# Altium footprint library CarlLibrary.PcbLib: 15 footprints
Each footprint in its own frame and in the unit in brackets; x right, y up, seen from the top. Pads: shape width x height; smd on the part's side, far side on the other; paste and mask are expansions set on the pad; w line width, h text height; cw(c..) or ccw(c..) is an arc to the next point about the centre after c.
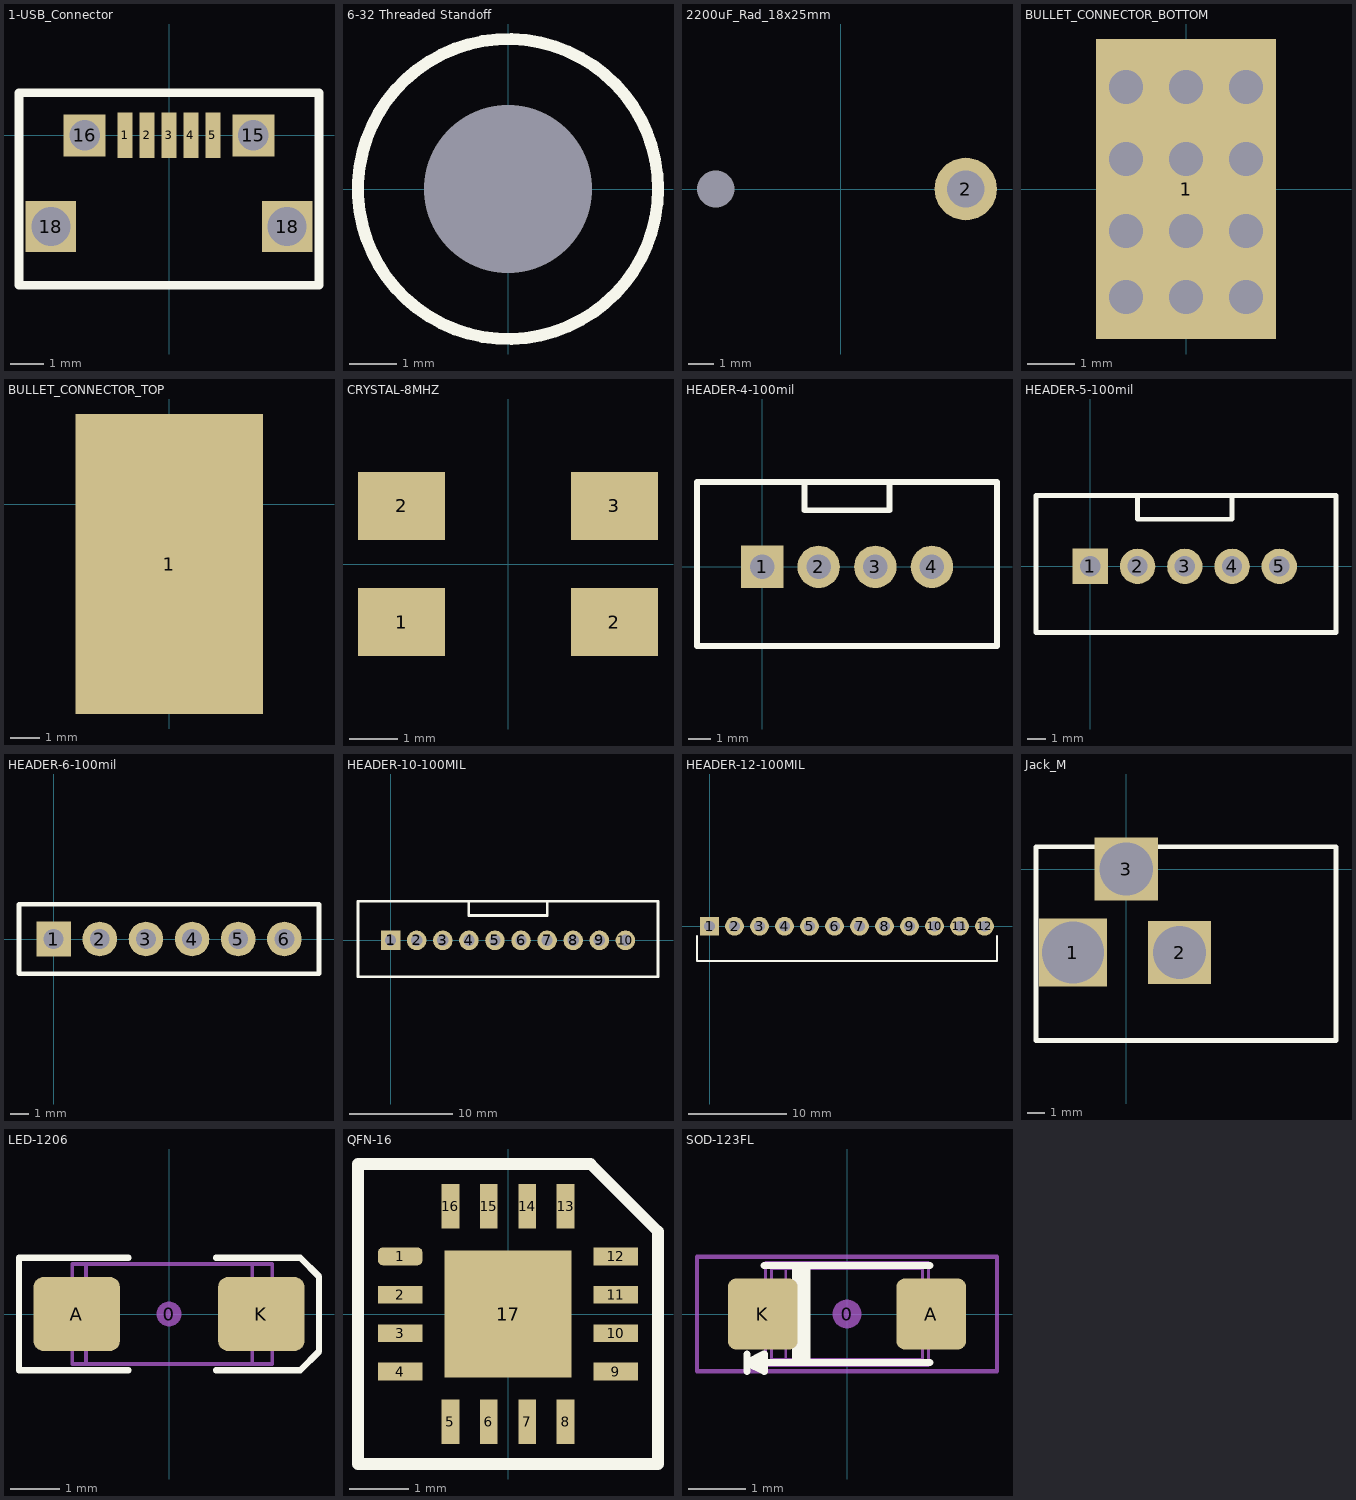
[diagram p0: the footprints below, top view; thin cyan lines are the x and y axes]

## 1-USB_Connector [mm] "USB_Connector_5P_MICRO_USB_FCI_TypeB"
pads (9):
  rect 0.45x1.35 smd: 1(-1.3,0) 2(-0.65,0) 3(0,0) 4(0.65,0) 5(1.3,0)
  rect 1.25x1.25 hole 0.9: 15(2.5,0) 16(-2.5,0)
  rect 1.5x1.5 hole 1.15: 18(-3.5,-2.7) 18(3.5,-2.7)
Top Overlay:
  lines w0.254: -4.445,-4.445 4.445,-4.445 4.445,1.27 -4.445,1.27 -4.445,-4.445
3D body "UsbMicro-10118194.step": height 2.73, standoff -0.55, extent -4.025,-5.334 4.025,0.246

## 6-32 Threaded Standoff [mil] "Keystone Threaded Standoff 534-2210"
pads (1):
  round 0 hole 140 unplated: 0(0,0)
Top Overlay:
  circle w10: c0,0 r125
Bottom Overlay:
  circle w10: c0,0 r125
3D body "Keystone-Standoff-534-2210.STEP": height 500, standoff 0, extent -124.99,-144.33 125,144.34

## 2200uF_Rad_18x25mm [mm] "10mm Pitch Radial Capacitor"
height 45
pads (2):
  round 0 / inner rect 0x0 / far side rect 2.5x2.5 hole 1.5 paste+0 mask+0: 1(-5,0)
  round 2.5 hole 1.5 paste+0.5 mask+0: 2(5,0)
3D body "2200uF_35V.STEP": height 35, standoff 10, extent -8,-8 8,8

## BULLET_CONNECTOR_BOTTOM [mm]
pads (1):
  rect 3.81x6.35 smd: 1(0,0)
via -1.27,-0.889 diameter 1.27 hole 0.711
via 0,-0.889 diameter 1.27 hole 0.711
via 1.27,-0.889 diameter 1.27 hole 0.711
via -1.27,0.635 diameter 1.27 hole 0.711
via 0,0.635 diameter 1.27 hole 0.711
via 1.27,0.635 diameter 1.27 hole 0.711
via 1.27,2.159 diameter 1.27 hole 0.711
via 0,2.159 diameter 1.27 hole 0.711
via -1.27,2.159 diameter 1.27 hole 0.711
via 1.27,-2.286 diameter 1.27 hole 0.711
via -1.27,-2.286 diameter 1.27 hole 0.711
via 0,-2.286 diameter 1.27 hole 0.711

## BULLET_CONNECTOR_TOP [mil] "TOP_SIDE_BULLET"
pads (1):
  rect 250x400 smd: 1(0,-80)
3D body "BulletConnector.STEP": height 246.33, standoff -49.48, extent -142.52,-445.86 142.53,125.01

## CRYSTAL-8MHZ [mm] "ABRACON ABMM2-8.000MHZ-E2-T"
pads (4):
  rect 1.8x1.4 smd: 1(-2.2,-1.2) 2(-2.2,1.2) 2(2.2,-1.2) 3(2.2,1.2)
3D body "ABMM2.STEP": height 1.21, standoff 0, extent -3,-1.778 3,1.822

## HEADER-4-100mil [mil] "100 mil spacing"
pads (4):
  rect 75x75 hole 43: 1(0,0)
  round 75 hole 43: 2(100,0) 3(200,0) 4(300,0)
Top Overlay:
  lines w10: 75,150 75,100 225,100 225,150 ; -115,-140 415,-140 415,150 -115,150 -115,-140
3D body "901361104.STEP": height 431.1, standoff -112.2, extent -115.94,-141.92 415.95,141.94

## HEADER-5-100mil [mil] "100 mil spacing"
pads (5):
  rect 75x75 hole 43: 1(0,0)
  round 75 hole 43: 2(100,0) 3(200,0) 4(300,0) 5(400,0)
Top Overlay:
  lines w10: 100,150 100,100 300,100 300,150 ; -115,-140 520,-140 520,150 -115,150 -115,-140
3D body "901361105.stp": height 431.1, standoff -112.2, extent -115.94,-136.92 515.95,146.94

## HEADER-6-100mil [mil] "100 mil spacing"
pads (6):
  rect 75x75 hole 43: 1(0,0)
  round 75 hole 43: 2(100,0) 3(200,0) 4(300,0) 5(400,0) 6(500,0)
Top Overlay:
  lines w10: -75,-75 575,-75 575,75 -75,75 -75,-75
3D body "4-103327-6.stp": height 338.58, standoff -118.11, extent -50,-50 550,50

## HEADER-10-100MIL [mil] "100 Mil Pitch"
pads (10):
  rect 75x75 hole 43: 1(0,0)
  round 75 hole 43: 2(100,0) 3(200,0) 4(300,0) 5(400,0) 6(500,0) 7(600,0) 8(700,0) 9(800,0) 10(900,0)
Top Overlay:
  lines w10: 300,150 300,95 600,95 600,150 ; -125,-140 -125,150 1025,150 1025,-140 -125,-140
3D body "901361110.STEP": height 421.26, standoff -122.05, extent -115.95,-140 1015.95,143.86

## HEADER-12-100MIL [mil] "100 Mil Pitch"
pads (12):
  rect 75x75 hole 43: 1(0,0)
  round 75 hole 43: 2(100,0) 3(200,0) 4(300,0) 5(400,0) 6(500,0) 7(600,0) 8(700,0) 9(800,0) 10(900,0) 11(1000,0) 12(1100,0)
Top Overlay:
  lines w8: -50,-40 -50,-140 1150,-140 1150,-40

## Jack_M [mm] "Jack_2.5A_16V_Through_Hole"
pads (3):
  rect 3.81x3.81 hole 3.5: 1(-3,-4.7)
  rect 3.556x3.556 hole 3: 2(3,-4.7) 3(0,0)
Top Overlay:
  lines w0.254: -5.08,-9.652 -5.08,1.27 11.811,1.27 11.811,-9.652 -5.08,-9.652
3D body "pj-002b.STEP": height 11, standoff -3.5, extent -3.556,-9.018 10.844,0.382

## LED-1206 [mm]
height 0.8
pads (3):
  round 0.508 on Mech14: 0(0,0)
  rrect25% 1.75x1.5 smd: A(-1.875,0) K(1.875,0)
Top Overlay:
  lines w0.127: -0.826,-1.143 -3.048,-1.143 -3.048,1.143 -0.826,1.143 ; 0.953,-1.143 2.667,-1.143 3.048,-0.762 3.048,0.762 2.667,1.143 0.953,1.143
Mechanical 13:
  lines w0.076: -1.689,-1.016 1.689,-1.016 1.689,1.016 -1.689,1.016 -1.689,-1.016
Mechanical 14:
  lines w0.076: -1.968,-1.016 2.095,-1.016 2.095,1.016 -1.968,1.016 -1.968,-1.016
3D body "SML-LXLC1206.stp": height 1.11, standoff 0, extent -1.603,-0.8 1.603,0.8

## QFN-16 [mm]
pads (17):
  rrect50% 0.75x0.3 smd: 1(-1.825,0.975)
  rect 0.75x0.3 smd: 2(-1.825,0.325) 3(-1.825,-0.325) 4(-1.825,-0.975) 9(1.825,-0.975) 10(1.825,-0.325) 11(1.825,0.325) 12(1.825,0.975)
  rect 0.3x0.75 smd: 5(-0.975,-1.825) 6(-0.325,-1.825) 7(0.325,-1.825) 8(0.975,-1.825) 13(0.975,1.825) 14(0.325,1.825) 15(-0.325,1.825) 16(-0.975,1.825)
  rect 2.15x2.15 smd: 17(0,0)
Top Overlay:
  lines w0.2: -2.54,-2.54 -2.54,2.54 1.397,2.54 2.54,1.397 2.54,-2.54 -2.54,-2.54
3D body "QFN_16.STEP": height 0.92, standoff 0, extent -2,-2 2,2

## SOD-123FL [mm] "SOD-123FL; 2 Leads; Body 2.7 x 1.6 mm, (LxW)"
height 1.35
pads (3):
  round 0.508 on Mech14: 0(0,0)
  rrect25% 1.22x1.25 smd: A(1.475,0) K(-1.475,0)
Top Overlay:
  lines w0.127: -1.75,-1 -1.75,-0.7 ; -1.45,0.85 1.45,0.85 ; -0.9,-0.85 -0.9,0.85 ; -0.8,-0.85 -0.8,0.85 ; -0.7,-0.85 -0.7,0.85 ; 1.448,-0.85 -1.45,-0.85 -1.75,-0.85 ; -1.75,-0.85 -1.45,-1 -1.45,-0.7 -1.75,-0.85
Mechanical 13:
  lines w0.05: -1.766,-0.308 -1.766,0.308 ; -1.707,-0.308 -1.707,0.308 ; -1.517,-0.308 -1.517,0.308 ; -1.425,-0.308 -1.95,-0.308 -1.95,0.308 -1.425,0.308 ; 1.425,-0.308 1.95,-0.308 1.95,0.308 1.425,0.308 ; 1.517,-0.308 1.517,0.308 ; 1.707,-0.308 1.707,0.308 ; 1.766,-0.308 1.766,0.308 ; -1.425,-0.9 1.425,-0.9 ; -1.425,-0.9 -1.323,-0.798 ; -1.425,-0.9 -1.425,0.9 ; -1.425,0.9 -1.323,0.798 ; -1.425,0.9 1.425,0.9 ; -1.323,-0.798 -1.072,-0.798 ; -1.323,-0.798 -1.323,0.798 ; -1.323,0.798 -1.072,0.798 ; -1.072,-0.798 1.322,-0.797 ; -1.072,-0.798 -1.072,0.798 ; -1.072,0.798 1.322,0.797 ; 1.322,-0.797 1.322,0.797 ; 1.322,-0.797 1.425,-0.9 ; 1.322,0.797 1.425,0.9 ; 1.425,-0.9 1.425,0.9
Mechanical 14:
  lines w0.076: -2.625,-1 2.625,-1 2.625,1 -2.625,1 -2.625,-1
3D body "SOD123.STEP": height 1.18, standoff 0, extent -1.95,-0.9 1.95,0.9